# Altium footprint library PcbLib1.PcbLib: 6 footprints
Each footprint in its own frame and in the unit in brackets; x right, y up, seen from the top. Pads: shape width x height; smd on the part's side, far side on the other; paste and mask are expansions set on the pad; w line width, h text height; cw(c..) or ccw(c..) is an arc to the next point about the centre after c.
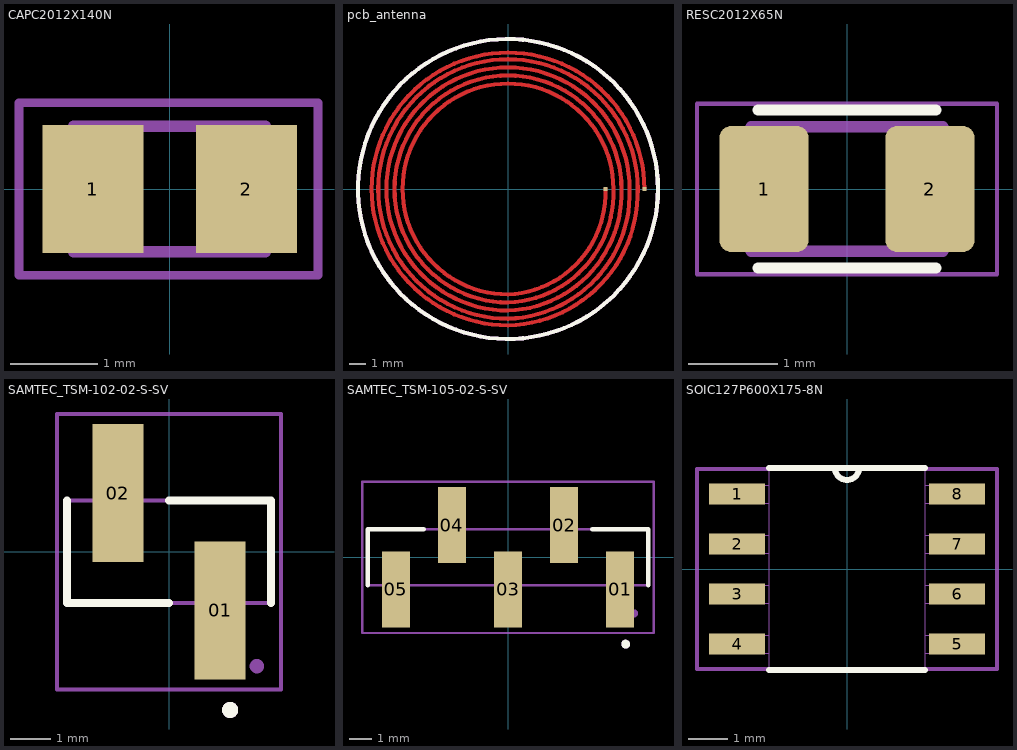
[diagram p0: the footprints below, top view; thin cyan lines are the x and y axes]

## CAPC2012X140N [mm]
pads (2):
  rect 1.16x1.47 smd: 1(-0.88,0) 2(0.88,0)
Top Assembly:
  lines w0.1: -1.727,-0.991 -1.727,0.991 1.702,0.991 1.702,-0.991 -1.727,-0.991
  text "'.Designator'" at -3.965,-0.292 h0.7
Mechanical 13:
  lines w0.127: -1.1,-0.72 -1.1,0.72 1.1,0.72 1.1,-0.72 -1.1,-0.72
Mechanical 15:
  lines w0.05: -1.713,-0.983 -1.713,0.983 1.713,0.983 1.713,-0.983 -1.713,-0.983

## pcb_antenna [mil]
pads (2):
  rect 10x10 smd: 1(336.44,0) 2(240,0)
Top Layer:
  lines w10: 240,0 cw(c-10,-10) 0,-260 cw(c0,0) -260,0 cw(c0,0) 0,260 cw(c0,0) 260,0 cw(c-10,-10) 0,-280 cw(c0,0) -280,0 cw(c0,0) 0,280 cw(c0,0) 280,0 cw(c-10,-10) 0,-300 cw(c0,0) -300,0 cw(c0,0) 0,300 cw(c0,0) 300,0 cw(c-10,-10) 0,-320 cw(c0,0) -320,0 cw(c0,0) 0,320 cw(c0,0) 320,0 cw(c-8.22,-8.22) 0,-336.44 cw(c0,0) -336.44,0 cw(c0,0) 0,336.44 cw(c0,0) 336.44,0
Top Overlay:
  circle w10: c0,0 r370
Mechanical 1:
  circle w10: c0,0 r370

## RESC2012X65N [mm]
pads (2):
  rrect25% 1x1.42 smd: 1(-0.935,0) 2(0.935,0)
Top Overlay:
  lines w0.127: -1,-0.89 1,-0.89 ; -1,0.89 1,0.89
Top Assembly:
  lines w0.05: -1.69,-0.96 1.69,-0.96 1.69,0.96 -1.69,0.96 -1.69,-0.96
  text "'.Designator'" at -3.965,-0.292 h0.7
Mechanical 13:
  lines w0.127: -1.08,-0.7 1.08,-0.7 1.08,0.7 -1.08,0.7 -1.08,-0.7
Mechanical 15:
  lines w0.05: -1.69,-0.96 1.69,-0.96 1.69,0.96 -1.69,0.96 -1.69,-0.96

## SAMTEC_TSM-102-02-S-SV [mm]
pads (2):
  rect 1.27x3.43 smd: 01(1.27,-1.46) 02(-1.27,1.46)
Top Overlay:
  circle w0.2: c1.52,-3.935 r0.1
  lines w0.2: -2.54,1.27 -2.54,-1.27 0,-1.27 ; 0,1.27 2.54,1.27 2.54,-1.27
Top Assembly:
  circle w0.254: c2.184,-2.845 r0.051
  lines w0.1: -2.79,-3.425 2.79,-3.425 2.79,3.425 -2.79,3.425 -2.79,-3.425
  text "'.Designator'" at -3.965,-0.292 h0.7
Mechanical 13:
  circle w0.2: c1.52,-3.935 r0.1
  lines w0.1: -2.54,-1.27 2.54,-1.27 2.54,1.27 -2.54,1.27 -2.54,-1.27
Mechanical 15:
  lines w0.05: -2.79,-3.425 2.79,-3.425 2.79,3.425 -2.79,3.425 -2.79,-3.425
3D body "TSM-102-02-S-SV.stp": height 11.95, standoff 0.01, extent -2.54,-2.667 2.54,2.54

## SAMTEC_TSM-105-02-S-SV [mm]
pads (5):
  rect 1.27x3.43 smd: 01(5.08,-1.46) 02(2.54,1.46) 03(0,-1.46) 04(-2.54,1.46) 05(-5.08,-1.46)
Top Overlay:
  circle w0.2: c5.33,-3.935 r0.1
  lines w0.2: -6.35,-1.27 -6.35,1.27 -3.81,1.27 ; 3.81,1.27 6.35,1.27 6.35,-1.27
Top Assembly:
  circle w0.254: c5.715,-2.54 r0.051
  lines w0.1: -6.6,-3.425 6.6,-3.425 6.6,3.425 -6.6,3.425 -6.6,-3.425
  text "'.Designator'" at -3.965,-0.292 h0.7
Mechanical 13:
  circle w0.2: c5.33,-3.935 r0.1
  lines w0.1: -6.35,-1.27 6.35,-1.27 6.35,1.27 -6.35,1.27 -6.35,-1.27
Mechanical 15:
  lines w0.05: -6.6,-3.425 6.6,-3.425 6.6,3.425 -6.6,3.425 -6.6,-3.425
3D body "TSM-105-02-S-SV.stp": height 11.95, standoff 0.01, extent -6.35,-2.603 6.35,2.603

## SOIC127P600X175-8N [mil]
pads (8):
  rect 56x21 smd: 1(-110,75) 2(-110,25) 3(-110,-25) 4(-110,-75) 5(110,-75) 6(110,-25) 7(110,25) 8(110,75)
Top Overlay:
  lines w6: -78,-101 78,-101 ; -78,101 -12,101 ; 78,101 12,101 ; -12,101 ccw(c0,101) 12,101 ; -12,101 12,101
Top Assembly:
  circle w10: c-125,75 r2
  lines w3.94: -150,-100 -150,100 150,100 150,-100 -150,-100
  text "'.Designator'" at -156.12,-11.48 h27.56
Mechanical 13:
  lines w0: -12,101 ccw(c0,101) 12,101 ; -12,101 12,101 ; -12,101 -78,101 -78,-101 78,-101 78,101 12,101 ; -124,-84 -124,-66 -78,-66 -78,-84 -124,-84 ; -124,-34 -124,-16 -78,-16 -78,-34 -124,-34 ; -124,16 -124,34 -78,34 -78,16 -124,16 ; -124,66 -124,84 -78,84 -78,66 -124,66 ; 78,-84 78,-66 124,-66 124,-84 78,-84 ; 78,-34 78,-16 124,-16 124,-34 78,-34 ; 78,16 78,34 124,34 124,16 78,16 ; 78,66 78,84 124,84 124,66 78,66
3D body "M24LR64-RMN6.STEP": height 59.56, standoff -9.34, extent -118.11,-96.46 118.11,96.46